# EAGLE library part CON_53047-11 (library SCADA_CUSTOM_LIBRARY)
CONNECTOR wire to board 1.25 mm (.049 inch) pitch header
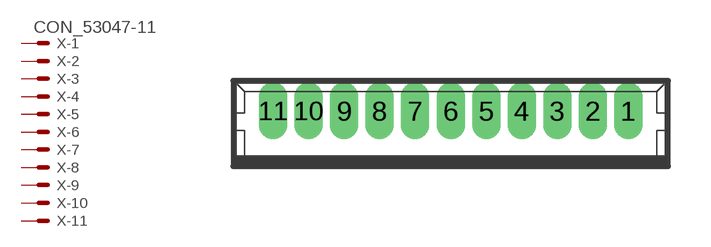
[diagram p4: symbol with the pads of 53047-11; footprint 53047-11]

Designator prefix X; gates -1=MV -2=M -3=M -4=M -5=M -6=M -7=M -8=M -9=M -10=M -11=M

## CON_53047-11047 (MF: WALDOM/MOLEX; MPN: 53047-1110; OC_FARNELL: unknown; OC_NEWARK: 18M8168)  [53047-11]
1  -1:S  pas
2  -2:S  pas
3  -3:S  pas
4  -4:S  pas
5  -5:S  pas
6  -6:S  pas
7  -7:S  pas
8  -8:S  pas
9  -9:S  pas
10  -10:S  pas
11  -11:S  pas

## Footprint 53047-11 (pad centres in mm)
1.25mm Pitch PicoBlade™ Wire-to-Board Header, Vertical, with Friction Lock, 11 Circuits Datasheet <http://www.molex.com/pdm_docs/sd/530471110_sd.pdf>
drill 0.5 pad 0.698 long: 1 6.25,0.45; 2 5,0.45; 3 3.75,0.45; 4 2.5,0.45; 5 1.25,0.45; 6 0,0.45; 7 -1.25,0.45; 8 -2.5,0.45; 9 -3.75,0.45; 10 -5,0.45; 11 -6.25,0.45